# Altium footprint library 双键灯.PcbLib: 11 footprints
Each footprint in its own frame and in the unit in brackets; x right, y up, seen from the top. Pads: shape width x height; smd on the part's side, far side on the other; paste and mask are expansions set on the pad; w line width, h text height; cw(c..) or ccw(c..) is an arc to the next point about the centre after c.
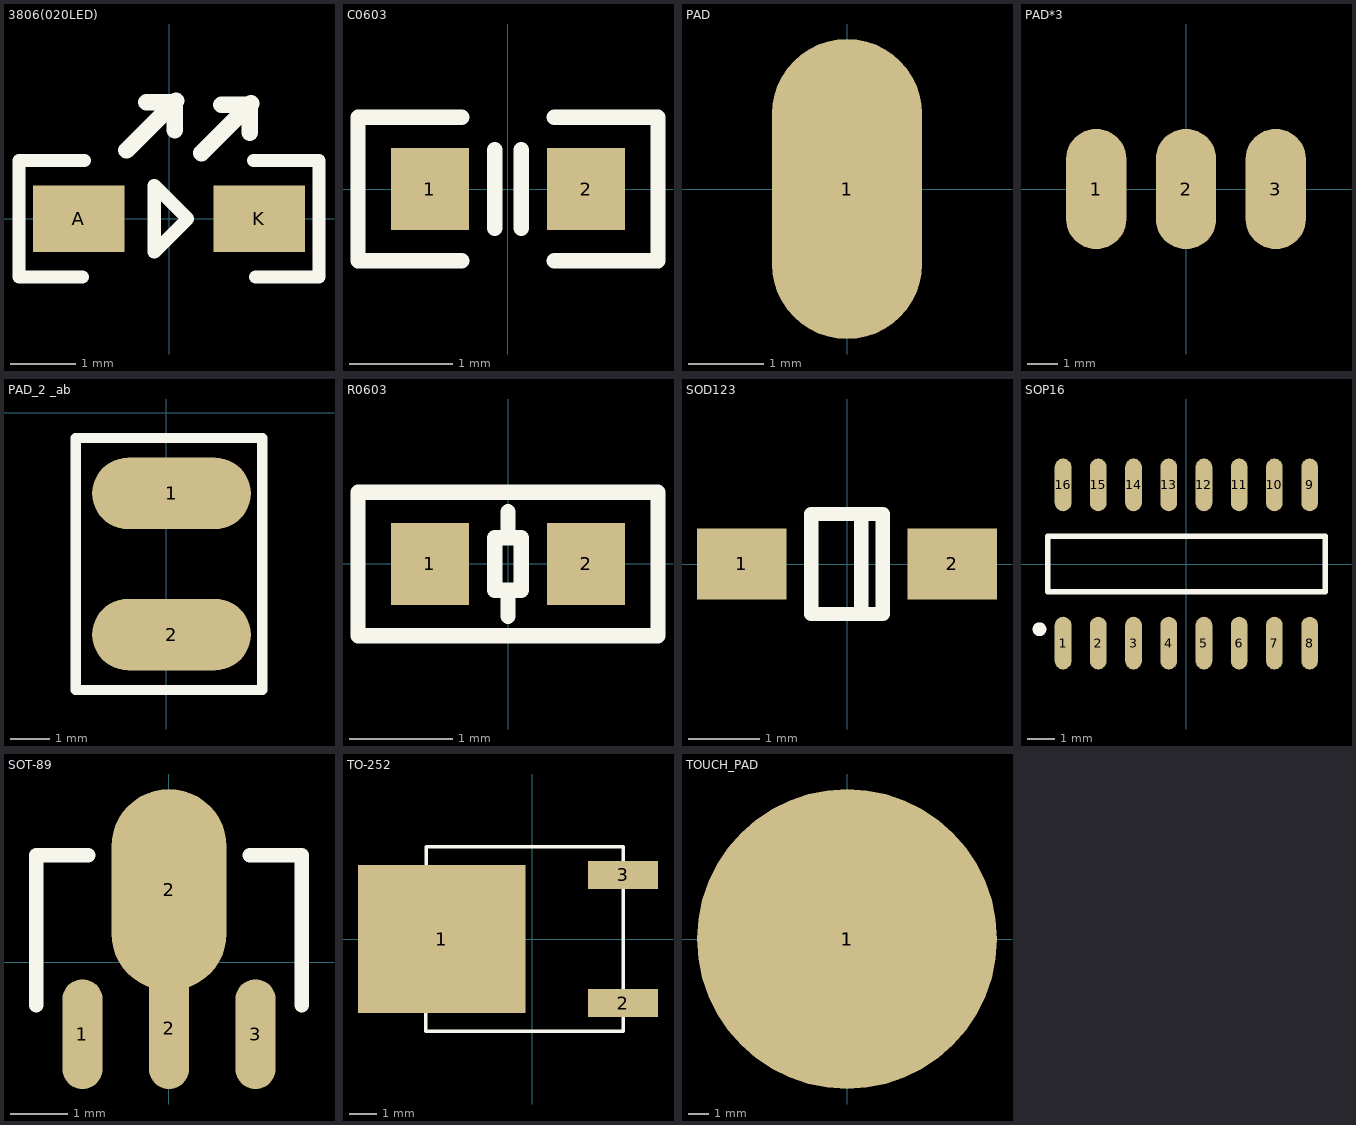
[diagram p0: the footprints below, top view; thin cyan lines are the x and y axes]

## 3806(020LED) [mm]
pads (2):
  rect 1.4x1.016 smd: A(-1.375,0) K(1.375,0)
Top Overlay:
  lines w0.2: -1.317,-0.889 -2.286,-0.889 -2.286,0.889 -1.292,0.889 ; 1.292,0.889 2.286,0.889 2.286,-0.889 1.317,-0.889 ; -0.225,-0.508 0.283,0 -0.225,0.508 -0.225,-0.508
  lines w0.254: -0.648,1.042 0.106,1.796 0.089,1.778 ; -0.343,1.778 0.089,1.778 ; 0.089,1.347 0.089,1.778 ; 0.495,1.003 1.249,1.758 1.232,1.74 ; 0.8,1.74 1.232,1.74 ; 1.232,1.308 1.232,1.74

## C0603 [mm]
pads (2):
  rect 0.76x0.8 smd: 1(-0.76,0) 2(0.76,0)
Top Overlay:
  lines w0.15: -0.45,-0.7 -1.46,-0.7 -1.46,0.7 -0.45,0.7 ; -0.127,-0.381 -0.127,0.381 ; 0.127,-0.381 0.127,0.381 ; 0.45,-0.7 1.46,-0.7 1.46,0.7 0.45,0.7

## PAD [mm]
pads (1):
  oval 2x4 smd: 1(0,0)

## PAD*3 [mm]
pads (3):
  oval 2x4 smd: 1(-2.984,0) 2(0,0) 3(2.984,0)

## PAD_2 _ab [mm]
pads (2):
  oval 4x1.8 smd: 1(0.127,-2.032) 2(0.127,-5.588)
Top Overlay:
  lines w0.254: -2.286,-6.985 2.413,-6.985 2.413,-0.635 1.778,-0.635 -2.286,-0.635 -2.286,-6.985

## R0603 [mm]
pads (2):
  rect 0.76x0.8 smd: 1(-0.76,0) 2(0.76,0)
Top Overlay:
  lines w0.15: 0,-0.508 0,-0.316 ; 0,0.316 0,0.508 ; -1.46,-0.7 1.46,-0.7 1.46,0.7 -1.46,0.7 -1.46,-0.7 ; -0.127,-0.254 -0.127,0.254 0.127,0.254 0.127,-0.254 -0.127,-0.254

## SOD123 [mm]
pads (2):
  rect 1.25x1 smd: 1(-1.475,0) 2(1.475,0)
Top Overlay:
  lines w0.2: 0.2,-0.7 0.2,0.7 ; -0.5,-0.7 0.5,-0.7 0.5,0.7 -0.5,0.7 -0.5,-0.7

## SOP16 [mm]
pads (16):
  oval 0.6x1.9 smd: 1(-4.445,-2.85) 2(-3.175,-2.85) 3(-1.905,-2.85) 4(-0.635,-2.85) 5(0.635,-2.85) 6(1.905,-2.85) 7(3.175,-2.85) 8(4.445,-2.85) 9(4.445,2.85) 10(3.175,2.85) 11(1.905,2.85) 12(0.635,2.85) 13(-0.635,2.85) 14(-1.905,2.85) 15(-3.175,2.85) 16(-4.445,2.85)
Top Overlay:
  circle w0.25: c-5.295,-2.35 r0.125
  lines w0.2: -5,-1 -5,1 5,1 5,-1 -5,-1

## SOT-89 [mm]
pads (4):
  oval 0.7x1.9 smd: 1(-1.5,-1.25) 3(1.5,-1.25)
  oval 0.7x2.1 smd: 2(0,-1.15)
  oval 2x3.5 smd: 2(0,1.25)
Top Overlay:
  lines w0.254: -2.3,-0.75 -2.3,1.85 -1.4,1.85 ; 1.4,1.85 2.3,1.85 2.3,-0.75

## TO-252 [mm]
pads (3):
  rect 6x5.3 smd: 1(-3.25,0)
  rect 2.5x1 smd: 2(3.25,-2.3) 3(3.25,2.3)
Top Overlay:
  lines w0.125: -3.82,-2.67 -3.82,-3.3 -3.11,-3.3 ; -3.81,2.68 -3.81,3.3 -2.39,3.3 ; -3.29,-3.3 3.22,-3.3 ; -3.29,3.3 3.23,3.3 ; 3.25,-3.3 3.25,3.3

## TOUCH_PAD [mm]
pads (2):
  round 15 on Top Solder: 1(0,0)
  round 15 smd: 1(0,0)